# Altium schematic symbol library SFECF10M7.Schlib: 1 symbol
Pins are listed as number, name and electrical type; pins without a type are passive.

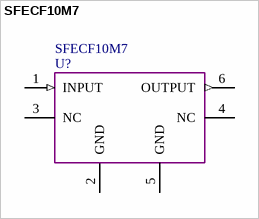
[diagram p0: symbol SFECF10M7]

## SFECF10M7
designator U?
pins: 1 INPUT (in), 2 GND (power), 3 NC, 4 NC, 5 GND (power), 6 OUTPUT (out)
2 alternate drawings of the same symbol